# EAGLE library part SS-12400-004 (library TImingBoardPartLibrary)
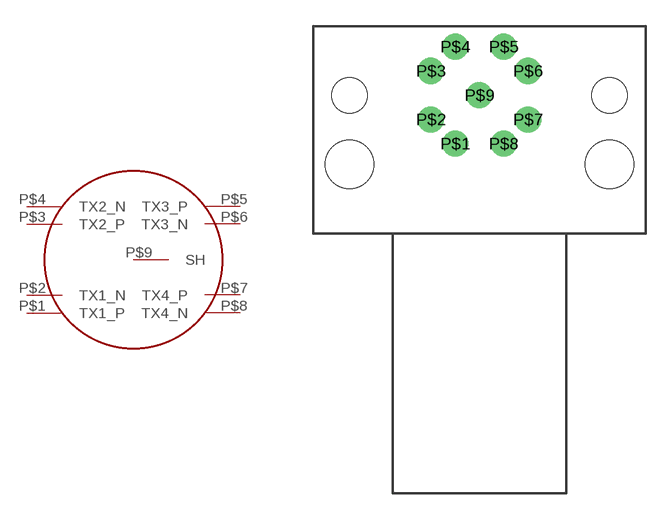
[diagram p6: symbol with the pads of SS-12400-004; footprint SS-12400-004]

Designator prefix -

## SS-12400-004  [SS-12400-004]
P$1  TX1_P
P$2  TX1_N
P$3  TX2_P
P$4  TX2_N
P$5  TX3_P
P$6  TX3_N
P$7  TX4_P
P$8  TX4_N
P$9  SH

## Footprint SS-12400-004 (pad centres in mm)
drill 1: P$1 -1.4,-2.8; P$2 -2.8,-1.4; P$3 -2.8,1.4; P$4 -1.4,2.8; P$5 1.4,2.8; P$6 2.8,1.4; P$7 2.8,-1.4; P$8 1.4,-2.8; P$9 0,0
hole 2.8 at -7.5,-4
hole 2.05 at -7.5,0
hole 2.05 at 7.5,0
hole 2.8 at 7.5,-4